# EAGLE library part TSB582IYQ2T (library TSB582IYQ2T)
High output current with thermal shutdown and output current limiter, 3.1 MHz, 36 V, BiCMOS dual operational amplifier Source: Datasheet <https://www.st.com/resource/en/datasheet/tsb582.pdf>
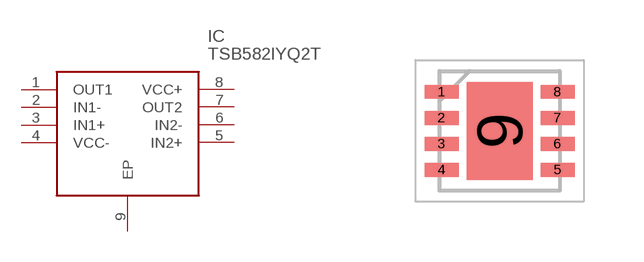
[diagram p0: symbol with the pads of SON65P300X300X80-9N; footprint SON65P300X300X80-9N]

Designator prefix IC

## TSB582IYQ2T (Description: High output current with thermal shutdown and output current limiter, 3.1 MHz, 36 V, BiCMOS dual operational amplifier; Height: 0.8mm; Manufacturer_Name: STMicroelectronics; Manufacturer_Part_Number: TSB582IYQ2T; Mouser_Part_Number: 511-TSB582IYQ2T; Mouser_Price-Stock: https://www.mouser.co.uk/ProductDetail/STMicroelectronics/TSB582IYQ2T?qs=Znm5pLBrcAKk3VhMkCWftg%3D%3D)  [SON65P300X300X80-9N]
1  OUT1
2  IN1-
3  IN1+
4  VCC-
5  IN2+
6  IN2-
7  OUT2
8  VCC+
9  EP

## Footprint SON65P300X300X80-9N (pad centres in mm)
QFN-8L WF_2022
smd 0.85 x 0.35: 1 -1.45,0.975; 2 -1.45,0.325; 3 -1.45,-0.325; 4 -1.45,-0.975; 5 1.45,-0.975; 6 1.45,-0.325; 7 1.45,0.325; 8 1.45,0.975
smd 1.65 x 2.45: 9 0,0